# Altium footprint library Revo_connector.PcbLib: 95 footprints (part 1 of 6)
Each footprint in its own frame and in the unit in brackets; x right, y up, seen from the top. Pads: shape width x height; smd on the part's side, far side on the other; paste and mask are expansions set on the pad; w line width, h text height; cw(c..) or ccw(c..) is an arc to the next point about the centre after c.
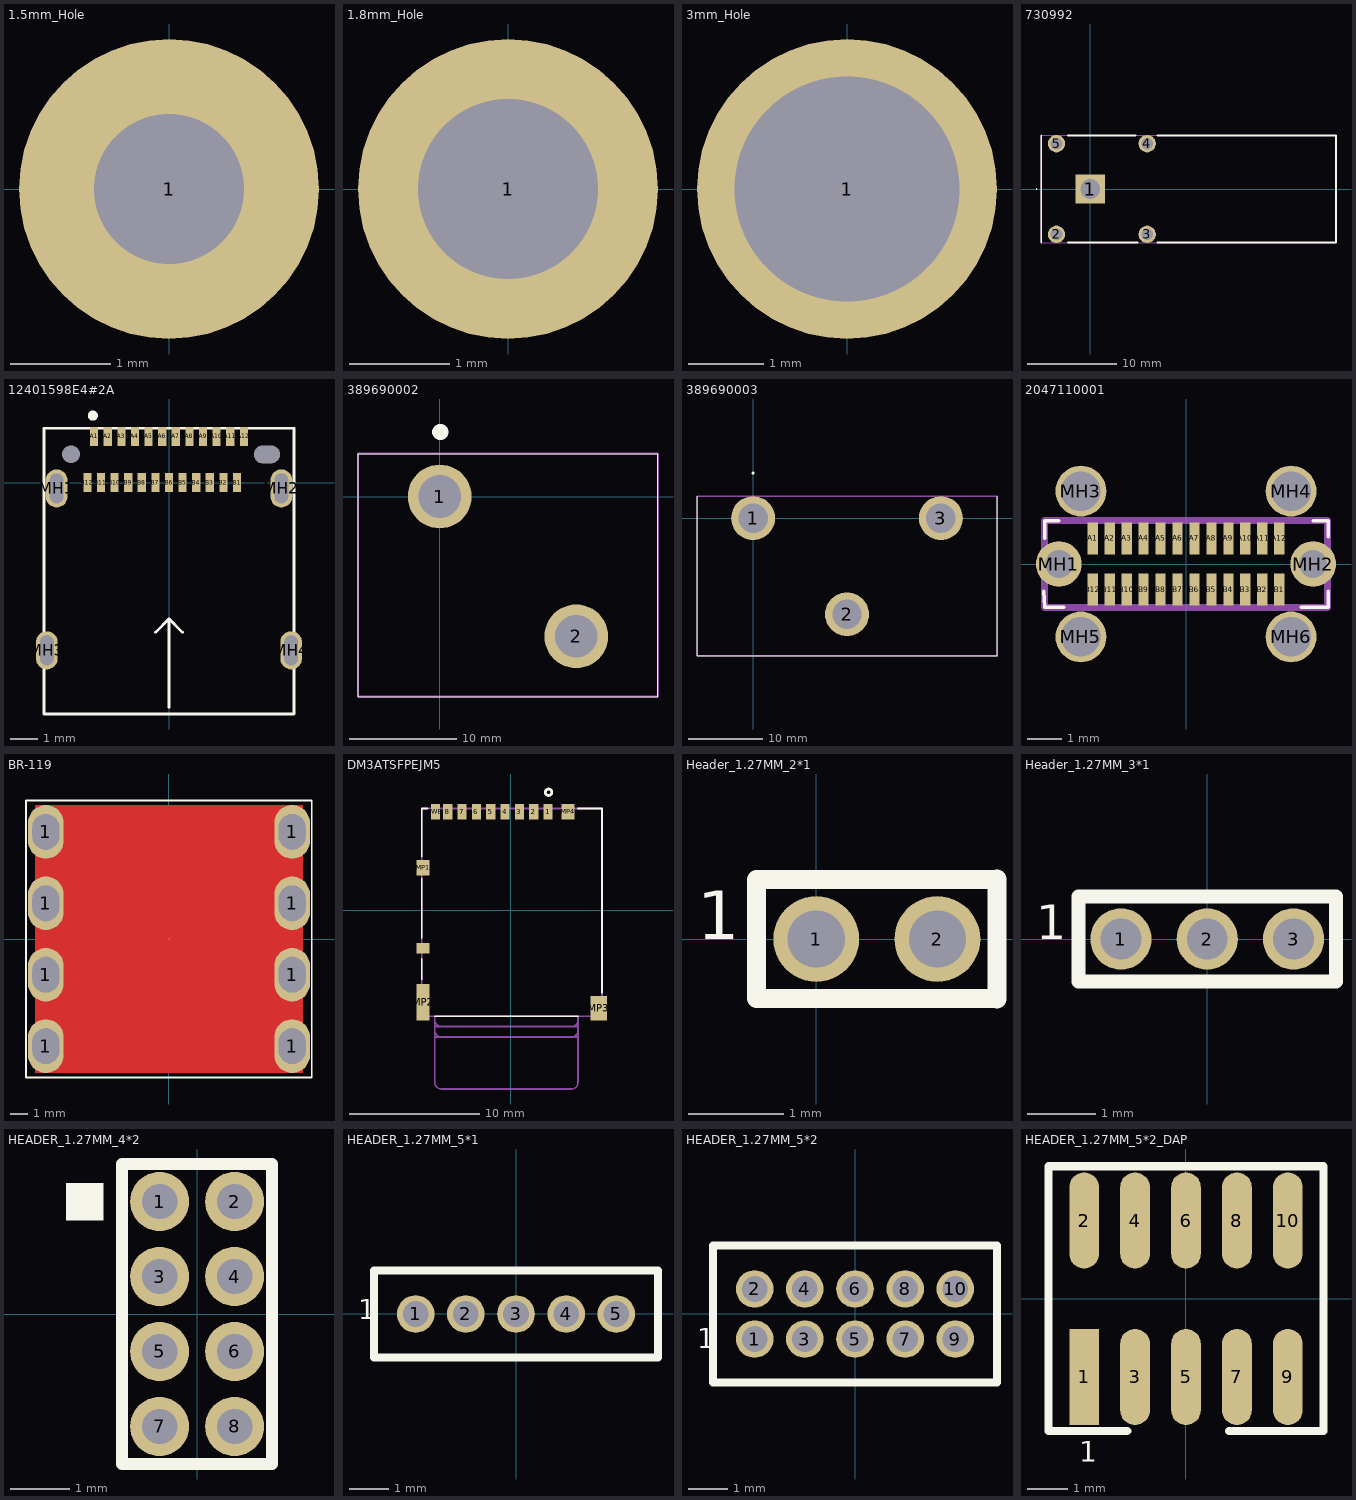
[diagram p0: the footprints below, top view; thin cyan lines are the x and y axes]

## 1.5mm_Hole [mm]
pads (1):
  round 3 hole 1.5: 1(0,0)

## 1.8mm_Hole [mm]
pads (1):
  round 3 hole 1.8: 1(0,0)

## 3mm_Hole [mm]
pads (1):
  round 4 hole 3: 1(0,0)

## 730992 [mm] "Test Plugs & Test Jacks RT ANG 4mm MOUNTING SAFETY JACK PCB RED"
pads (5):
  rect 3.3x3.3 hole 2.2: 1(0,0)
  round 1.95 hole 1.3: 2(-3.8,-5.08) 3(6.36,-5.08) 4(6.36,5.08) 5(-3.8,5.08)
Top Overlay:
  lines w0.1: -6.1,0 cw(c-6.05,0) -6,0 cw(c-6.05,0) -6.1,0
  lines w0.2: -5.5,-6 -5.5,6 ; -2.52,-6 5.28,-6 ; -2.52,6 5.08,6 ; 7.5,-6 27.52,-6 27.52,6 7.5,6
Mechanical 13:
  lines w0.1: -5.5,-6 -5.5,6 27.5,6 27.5,-6 -5.5,-6
3D body "73099-2.stp": height 12.6, standoff -2.3, extent -5.49,-6 27.51,6

## 12401598E4#2A [mm]
pads (30):
  rect 0.3x0.7 smd: A1(-2.75,1.7) A2(-2.25,1.7) A3(-1.75,1.7) A4(-1.25,1.7) A5(-0.75,1.7) A6(-0.25,1.7) A7(0.25,1.7) A8(0.75,1.7) A9(1.25,1.7) A10(1.75,1.7) A11(2.25,1.7) A12(2.75,1.7) B1(2.5,0) B2(2,0) B3(1.5,0) B4(1,0) B5(0.5,0) B6(0,0) B7(-0.5,0) B8(-1,0) B9(-1.5,0) B10(-2,0) B11(-2.5,0) B12(-3,0)
  round 0 hole 0.65: H1(-3.6,1.04)
  rect 0x0 hole 0.65 slot 0.95 at 0 deg: H2(3.6,1.04)
  oval 0.8x1.4 hole 0.5 slot 1.1 at 90 deg: MH1(-4.13,-0.21) MH2(4.13,-0.21) MH3(-4.49,-6.16) MH4(4.49,-6.16)
Top Overlay:
  circle w0.254: c-2.798,2.465 r0.06
  lines w0.1: -0.5,-5.5 0,-5 ; 0,-8.25 0,-5 ; 0.5,-5.5 0,-5 ; -4.59,-8.5 4.59,-8.5 4.59,2 -4.59,2 -4.59,-8.5
3D body "12401598E4#2A.stp": height 3.26, standoff -2.13, extent -4.6,-8.5 4.6,1.99

## 389690002 [mm]
pads (2):
  round 5.94 hole 3.96: 1(0,0) 2(12.7,-13)
Top Overlay:
  lines w0.1: -7.6,-18.6 20.3,-18.6 20.3,4 -7.6,4 -7.6,-18.6
  lines w1.4: 0,6 ccw(c0.05,6) 0.1,6 ccw(c0.05,6) 0,6
Mechanical 13:
  lines w0.2: -7.6,-18.6 20.3,-18.6 20.3,4 -7.6,4 -7.6,-18.6
3D body "38969-0002.stp": height 22.48, standoff -4.19, extent -7.73,-18.38 20.21,3.21

## 389690003 [mm]
pads (3):
  round 5.94 hole 3.96: 1(0,0) 2(12.7,-13) 3(25.4,0)
Top Overlay:
  lines w0.1: -7.6,3 -7.6,-18.6 33,-18.6 33,3
  lines w0.2: 0,6 cw(c0,6.1) 0,6.2 cw(c0,6.1) 0,6
Mechanical 13:
  lines w0.2: -7.6,-18.6 -7.6,3 33,3 33,-18.6 -7.6,-18.6
3D body "38969-0003.stp": height 22.39, standoff -4.28, extent -7.62,-18.59 33.02,3

## 2047110001 [mm]
pads (30):
  rect 0.3x0.95 smd: A1(-2.75,0.755) A2(-2.25,0.755) A3(-1.75,0.755) A4(-1.25,0.755) A5(-0.75,0.755) A6(-0.25,0.755) A7(0.25,0.755) A8(0.75,0.755) A9(1.25,0.755) A10(1.75,0.755) A11(2.25,0.755) A12(2.75,0.755) B1(2.75,-0.755) B2(2.25,-0.755) B3(1.75,-0.755) B4(1.25,-0.755) B5(0.75,-0.755) B6(0.25,-0.755) B7(-0.25,-0.755) B8(-0.75,-0.755) B9(-1.25,-0.755) B10(-1.75,-0.755) B11(-2.25,-0.755) B12(-2.75,-0.755)
  round 1.349 hole 0.83: MH1(-3.75,0) MH2(3.75,0)
  round 1.5 hole 1.17: MH3(-3.1,2.15) MH4(3.1,2.15) MH5(-3.1,-2.15) MH6(3.1,-2.15)
Top Overlay:
  lines w0.1: -4.2,-0.8 -4.17,-1.28 -3.6,-1.28 ; -4.17,0.755 -4.17,1.28 -3.75,1.28 ; 3.4,-1.28 4.2,-1.28 4.2,-0.8 ; 3.75,1.28 4.2,1.28 4.2,0.8
Mechanical 13:
  lines w0.2: -4.17,-1.28 -4.17,1.28 4.17,1.28 4.17,-1.28 -4.17,-1.28
3D body "2047110001.stp": height 9.05, standoff -1.4, extent -4.42,-2.275 4.42,2.275

## BR-119 [mm]
pads (9):
  oval 2x3 hole 1.5 slot 2 at 90 deg unplated: 1(-6.9,-6) 1(-6.9,-2) 1(-6.9,2) 1(-6.9,6) 1(6.9,-6) 1(6.9,-2) 1(6.9,2) 1(6.9,6)
  round 0.025 all layers, no hole: 1(0,0)
Top Layer:
  region: -7.5,-7.5 7.5,-7.5 7.5,7.5 -7.5,7.5
Layer 1:
  region: -7.5,-7.5 7.5,-7.5 7.5,7.5 -7.5,7.5
Layer 2:
  region: -7.5,-7.5 7.5,-7.5 7.5,7.5 -7.5,7.5
Layer 3:
  region: -7.5,-7.5 7.5,-7.5 7.5,7.5 -7.5,7.5
Layer 4:
  region: -7.5,-7.5 7.5,-7.5 7.5,7.5 -7.5,7.5
Bottom Layer:
  region: -7.5,-7.5 7.5,-7.5 7.5,7.5 -7.5,7.5
Top Overlay:
  lines w0.1: -8,-7.75 -8,7.75 8,7.75 8,-7.75 -7.25,-7.75 -8,-7.75
3D body "connector1.stp": height 4.1, standoff -10.9, extent -7.5,-7.5 7.51,7.5

## DM3ATSFPEJM5 [mm]
pads (14):
  rect 0.7x1.2 smd: 1(2.85,7.55) 2(1.75,7.55) 3(0.65,7.55) 4(-0.45,7.55) 5(-1.55,7.55) 6(-2.65,7.55) 7(-3.75,7.55) 8(-4.85,7.55) SWB(-5.8,7.55)
  rect 1x1.2 smd: MP1(-6.75,3.25) MP4(4.4,7.55)
  rect 1x2.8 smd: MP2(-6.75,-7.1)
  rect 1.3x1.9 smd: MP3(6.75,-7.55)
  rect 1x0.8 smd: SWA(-6.75,-2.95)
Top Overlay:
  circle w0.2: c2.9,9.05 r0.25
  lines w0.127: -6.85,-5.35 -6.85,-3.75 ; -6.85,-2.15 -6.85,2.45 ; -6.85,4.1 -6.85,7.8 -6.4,7.8 ; -5.85,-8.15 5.15,-8.15 ; 5.15,7.8 7,7.8 7,-6.35
Mechanical 1:
  lines w0.127: -5.85,-9.75 -5.85,-9.25 ; -5.85,-9.75 -5.85,-13.25 ccw(c-5.35,-13.25) -5.35,-13.75 4.65,-13.75 ccw(c4.65,-13.25) 5.15,-13.25 5.15,-9.75 ; -5.85,-9.75 -5.35,-9.75 ; -5.85,-9.25 ccw(c-5.35,-9.25) -5.35,-9.75 ; -5.85,-9.25 -5.85,-8.95 ; -5.85,-8.95 -5.35,-8.95 ; -5.85,-8.95 -5.85,-8.45 ; -5.85,-8.45 ccw(c-5.35,-8.45) -5.35,-8.95 ; -5.85,-8.45 -5.85,-8.15 5.15,-8.15 5.15,-8.45 ; -5.35,-9.75 4.65,-9.75 ; -5.35,-8.95 4.65,-8.95 ; 4.65,-9.75 ccw(c4.65,-9.25) 5.15,-9.25 ; 4.65,-9.75 5.15,-9.75 ; 4.65,-8.95 ccw(c4.65,-8.45) 5.15,-8.45 ; 4.65,-8.95 5.15,-8.95 ; 5.15,-9.75 5.15,-9.25 ; 5.15,-9.25 5.15,-8.95 ; 5.15,-8.95 5.15,-8.45
Mechanical 13:
  lines w0.127: -6.85,-8.15 -6.85,7.8 7,7.8 7,-8.15 -6.85,-8.15
  text "PCB Edge" at -5.108,-7.975 h0.3
3D body "DM3AT-SF-PEJM5--3DModel-STEP-56544.STEP": height 1.68, standoff 0, extent -6.851,-8.508 6.999,7.642

## Header_1.27MM_2*1 [mm] "HEADER_1.27MM_2*1"
pads (2):
  round 0.9 hole 0.6 mask+0.05: 1(0,0) 2(1.27,0)
Top Overlay:
  lines w0.2: 1.895,-0.625 -0.625,-0.625 -0.625,0.625 1.895,0.625
  lines w0.203: 1.895,-0.625 1.895,0.625
  text "1" at -1.25,0 h0.51

## Header_1.27MM_3*1 [mm] "Header_1.27MM_3*1"
pads (3):
  round 0.9 hole 0.6 mask+0.05: 1(-1.27,0) 2(0,0) 3(1.27,0)
Top Overlay:
  lines w0.2: 1.895,-0.625 -1.895,-0.625 -1.895,0.625 1.895,0.625
  lines w0.203: 1.895,-0.625 1.895,0.625
  text "1" at -2.52,0 h0.51

## HEADER_1.27MM_4*2 [mm] "HEADER_1.27MM_4*2"
pads (8):
  round 1 hole 0.6 mask+0.05: 1(-0.635,1.905) 2(0.635,1.905) 3(-0.635,0.635) 4(0.635,0.635) 5(-0.635,-0.635) 6(0.635,-0.635) 7(-0.635,-1.905) 8(0.635,-1.905)
Top Overlay:
  region: -2.222,2.222 -2.222,1.587 -1.587,1.587 -1.587,2.222
  lines w0.203: -1.27,-2.54 1.27,-2.54 1.27,2.54 -1.27,2.54 -1.27,1.041 -1.27,-1.028 -1.27,-2.54

## HEADER_1.27MM_5*1 [mm] "HEADER_1.27MM_5*1"
pads (5):
  round 0.95 hole 0.65 mask+0.05: 1(-2.54,0) 2(-1.27,0) 3(0,0) 4(1.27,0) 5(2.54,0)
Top Overlay:
  lines w0.203: -3.599,-1.099 -3.599,1.099 3.594,1.099 3.594,-1.099 -3.599,-1.099
  text "1" at -4,-0.135 h0.51

## HEADER_1.27MM_5*2 [mm] "HEADER_1.27MM_5*2"
pads (10):
  round 0.95 hole 0.65 mask+0.05: 1(-2.54,-0.635) 2(-2.54,0.635) 3(-1.27,-0.635) 4(-1.27,0.635) 5(0,-0.635) 6(0,0.635) 7(1.27,-0.635) 8(1.27,0.635) 9(2.54,-0.635) 10(2.54,0.635)
Top Overlay:
  lines w0.203: -3.599,-1.734 3.594,-1.734 3.594,1.734 -3.599,1.734 -3.599,-1.734
  text "1" at -4,-0.865 h0.51

## HEADER_1.27MM_5*2_DAP [mm] "HEADER_1.27MM_5*2"
pads (10):
  rect 0.74x2.4 smd mask+0.05: 1(-2.54,-1.95)
  oval 0.74x2.4 smd mask+0.05: 2(-2.54,1.95) 3(-1.27,-1.95) 4(-1.27,1.95) 5(0,-1.95) 6(0,1.95) 7(1.27,-1.95) 8(1.27,1.95) 9(2.54,-1.95) 10(2.54,1.95)
Top Overlay:
  lines w0.203: -1.467,-3.298 -3.429,-3.298 -3.429,3.302 3.429,3.302 3.429,-3.298 1.073,-3.298
  text "1" at -2.667,-4.064 h0.51
3D body "deP_centor.stp": height 5.3, standoff 0, extent -3.325,-2.755 3.325,2.755